# Altium footprint library 51常用（2）.PcbLib: 45 footprints (part 1 of 3)
Each footprint in its own frame and in the unit in brackets; x right, y up, seen from the top. Pads: shape width x height; smd on the part's side, far side on the other; paste and mask are expansions set on the pad; w line width, h text height; cw(c..) or ccw(c..) is an arc to the next point about the centre after c.
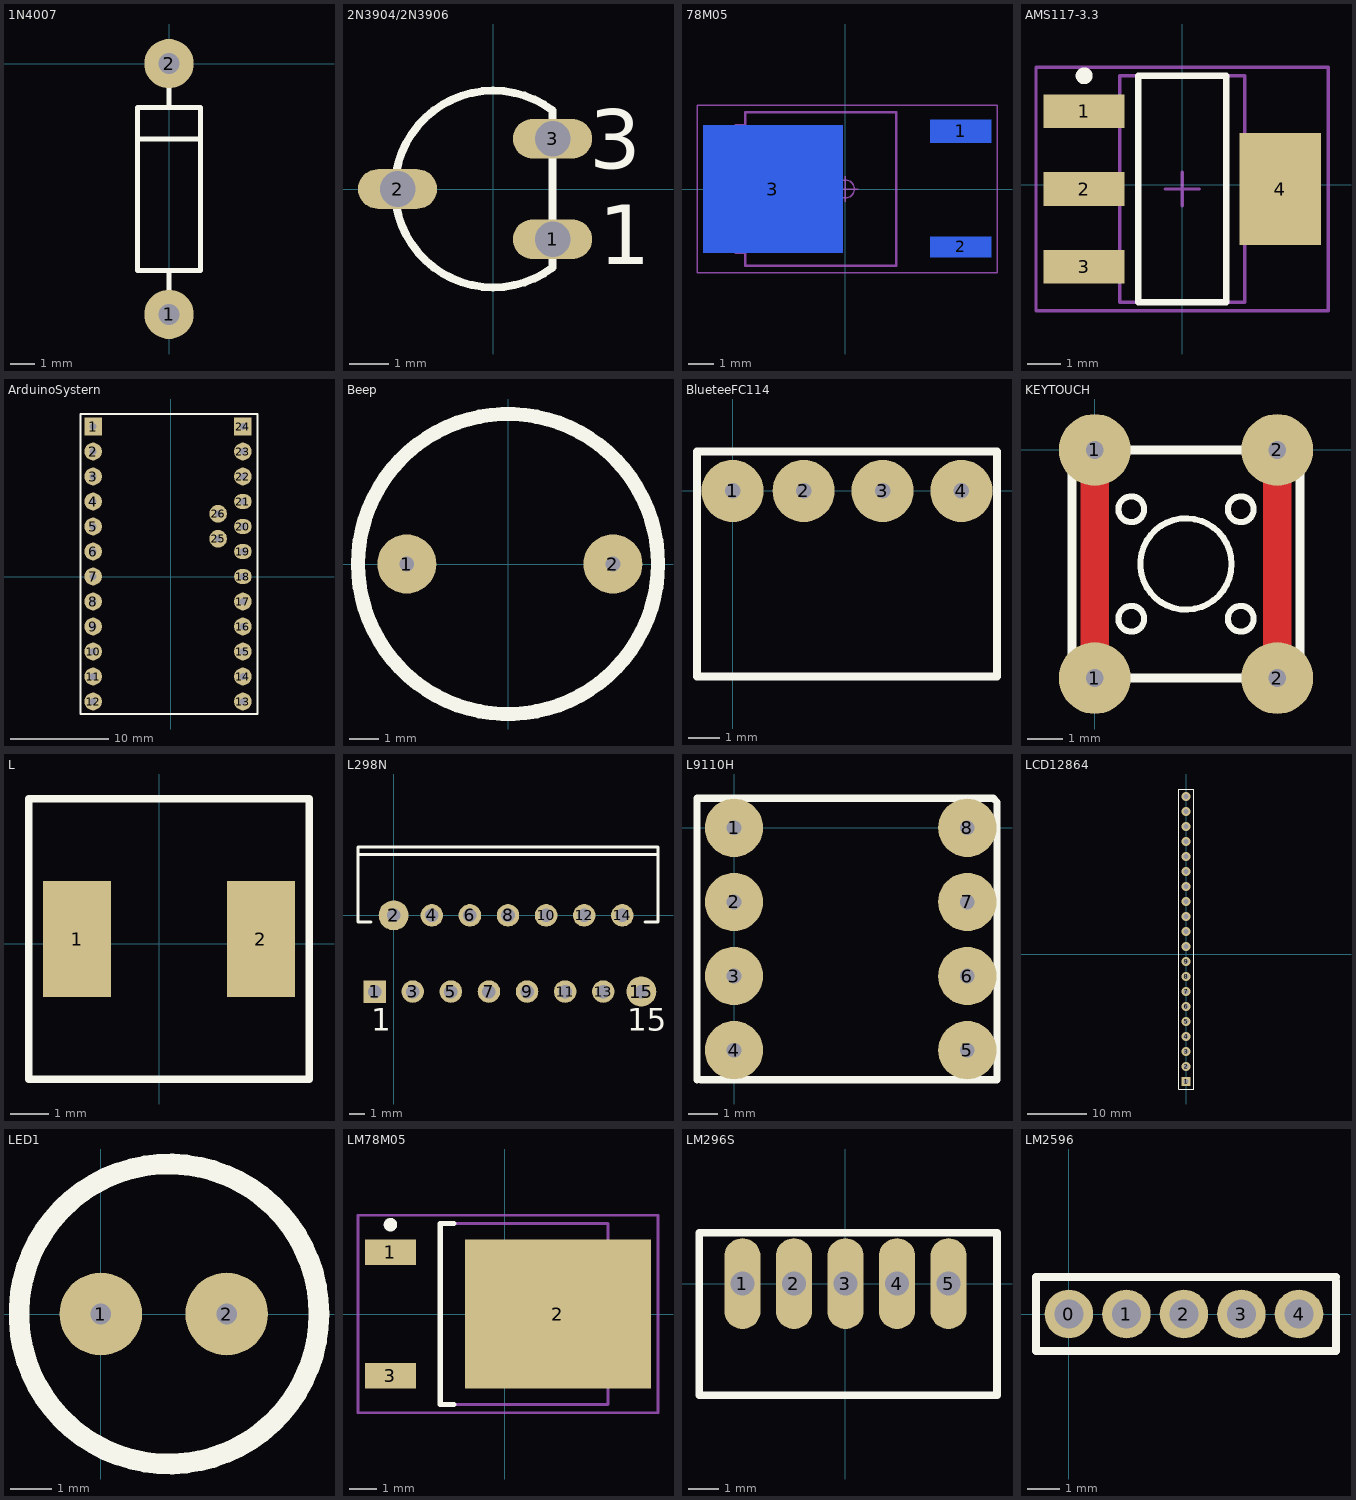
[diagram p0: the footprints below, top view; thin cyan lines are the x and y axes]

## 1N4007 [mm] "二极管"
pads (2):
  round 2 hole 0.85: 1(0,-10.16) 2(0,0)
Top Overlay:
  lines w0.2: -1.27,-3.048 1.27,-3.048 ; 0,-9.144 0,-8.382 ; 0,-1.778 0,-1.016 ; -1.27,-8.382 1.27,-8.382 1.27,-1.778 -1.27,-1.778 -1.27,-8.382

## 2N3904/2N3906 [mm]
pads (3):
  oval 2x1 hole 0.9: 1(1.5,-1.27) 2(-2.413,0) 3(1.5,1.27)
Top Overlay:
  lines w0.2: 1.5,-1.98 cw(c0,0) 1.5,1.98 1.5,-1.98
  text "1" at 2.66,-1.9 h1.5
  text "3" at 2.43,0.51 h1.5

## 78M05 [mm]
pads (3):
  rect 2.4x0.9 smd far side: 1(4.55,2.28)
  rect 2.4x0.8 smd far side: 2(4.55,-2.28)
  rect 5.5x5 smd far side: 3(-2.85,0)
Bottom Overlay:
  circle w0.25: c5.2,3.3 r0.125
  lines w0.2: 0.4,-3.05 2.7,-3.05 2.7,3.05 0.4,3.05
Bottom Paste:
  region: -3.03,0.33 -4.79,0.33 -4.79,1.95 -3.03,1.95
  region: -0.61,0.33 -2.37,0.33 -2.37,1.95 -0.61,1.95
  region: -3.03,-1.95 -4.79,-1.95 -4.79,-0.33 -3.03,-0.33
  region: -0.61,-1.95 -2.37,-1.95 -2.37,-0.33 -0.61,-0.33
Mechanical 1:
  lines w0.1: -3.95,-2.5 -4.313,-2.5 -5.05,-1.683 -5.05,1.683 -4.313,2.5 -3.95,2.5 ; -3.95,-3.025 -3.95,3.025 2,3.025 2,-3.025 -3.95,-3.025
Mechanical 16:
  circle w0.05: c0,0 r0.35
  lines w0.05: -0.5,0 0.5,0 ; 0,-0.5 0,0.5 ; -5.842,-3.3 -5.842,3.3 5.969,3.3 5.969,-3.3 -5.842,-3.3

## AMS117-3.3 [mm]
pads (4):
  rect 2.4x1 smd: 1(-2.9,2.173) 2(-2.9,-0.127) 3(-2.9,-2.427)
  rect 2.4x3.3 smd: 4(2.9,-0.127)
Top Overlay:
  circle w0.25: c-2.9,3.223 r0.125
  lines w0.2: -1.3,-3.477 -1.3,3.223 1.3,3.223 1.3,-3.477 -1.3,-3.477
Mechanical 13:
  lines w0.1: -1.85,-3.477 -1.85,3.223 1.85,3.223 1.85,-3.477 -1.85,-3.477
Mechanical 15:
  lines w0.1: -0.5,-0.127 0.5,-0.127 ; 0,-0.627 0,0.373 ; -4.325,-3.727 -4.325,3.473 4.325,3.473 4.325,-3.727 -4.325,-3.727
3D body: height 1.8, standoff 0.02, extent -1.85,-3.477 1.85,3.223

## ArduinoSystern [mm]
pads (26):
  rect 1.8x1.8 hole 0.7: 1(-7.874,15.24) 24(7.341,15.24)
  round 1.8 hole 0.7: 2(-7.874,12.7) 3(-7.874,10.16) 4(-7.874,7.62) 5(-7.874,5.08) 6(-7.874,2.54) 7(-7.874,0) 8(-7.874,-2.54) 9(-7.874,-5.08) 10(-7.874,-7.62) 11(-7.874,-10.16) 12(-7.874,-12.7) 13(7.341,-12.7) 14(7.341,-10.16) 15(7.341,-7.62) 16(7.341,-5.08) 17(7.341,-2.54) 22(7.341,10.16) 23(7.341,12.7) 25(4.826,3.835) 26(4.826,6.375)
  oval 1.8x1.5 hole 0.7: 18(7.341,0) 19(7.341,2.54) 20(7.341,5.08) 21(7.341,7.62)
Top Overlay:
  lines w0.2: -9.144,-13.97 8.814,-13.97 8.814,16.51 -9.144,16.51 -9.144,-13.97

## Beep [mm]
pads (2):
  round 2 hole 0.5: 1(-3.429,0) 2(3.556,0)
Top Overlay:
  circle w0.48: c0,0 r5.082

## BlueteeFC114 [mm]
pads (4):
  round 2 hole 0.5: 1(0,0) 2(2.286,0) 3(4.826,0) 4(7.366,0)
Top Overlay:
  lines w0.254: -1.143,-5.969 -1.143,1.27 8.509,1.27 8.509,-5.969 -1.143,-5.969

## KEYTOUCH [mm] "轻触开关"
pads (4):
  round 2 hole 0.5: 1(0,-6.35) 1(0,0) 2(5.08,-6.35) 2(5.08,0)
Top Layer:
  lines w0.8: 0,-6.35 0,0 ; 5.08,-6.35 5.08,0.127
Top Overlay:
  circle w0.17: c1.016,-1.651 r0.359
  circle w0.17: c4.064,-1.651 r0.359
  circle w0.17: c4.064,-4.699 r0.359
  circle w0.17: c1.016,-4.699 r0.359
  circle w0.17: c2.54,-3.175 r1.27
  lines w0.254: -0.635,-6.35 -0.635,0 5.715,0 5.715,-6.35 -0.635,-6.35

## L [mil]
pads (2):
  rect 70x120 smd: 1(-85,5) 2(105,5)
Top Overlay:
  lines w7.87: -135,-140 -135,150 155,150 155,-140 -135,-140

## L298N [mm]
pads (15):
  rect 1.5x1.5 hole 0.9: 1(-1.27,-5.08)
  round 2 hole 0.9: 2(0,0) 15(16.51,-5.08)
  round 1.5 hole 0.9: 3(1.27,-5.08) 4(2.54,0) 5(3.81,-5.08) 6(5.08,0) 7(6.35,-5.08) 8(7.62,0) 9(8.89,-5.08) 10(10.16,0) 11(11.43,-5.08) 12(12.7,0) 13(13.97,-5.08) 14(15.24,0)
Top Overlay:
  lines w0.2: -2.38,4.05 17.62,4.05 ; -1.524,-0.45 -2.38,-0.45 -2.38,4.55 17.62,4.55 17.62,-0.45 16.764,-0.45
  text "15" at 15.56,-7.705 h1.5
  text "1" at -1.5,-7.705 h1.5

## L9110H [mm]
pads (8):
  round 2 hole 0.5: 1(0,0) 2(0,-2.54) 3(0,-5.08) 4(0,-7.62) 5(8.001,-7.62) 6(8.001,-5.08) 7(8.001,-2.54) 8(8.001,0)
Top Overlay:
  lines w0.254: -1.27,-8.636 -1.27,1.016 8.89,1.016 9.017,0.889 9.017,-8.636 -1.143,-8.636

## LCD12864 [mm]
height 3
pads (20):
  rect 1.5x1.5 hole 0.9: 1(0,-21.59)
  round 1.5 hole 0.9: 2(0,-19.05) 3(0,-16.51) 4(0,-13.97) 5(0,-11.43) 6(0,-8.89) 7(0,-6.35) 8(0,-3.81) 9(0,-1.27) 10(0,1.27) 11(0,3.81) 12(0,6.35) 13(0,8.89) 14(0,11.43) 15(0,13.97) 16(0,16.51) 17(0,19.05) 18(0,21.59) 19(0,24.13) 20(0,26.67)
Top Overlay:
  lines w0.2: -1.27,-22.86 -1.27,-20.955 -1.27,27.94 1.27,27.94 1.27,-22.86 -1.27,-22.86

## LED1 [mm] "电源指示灯   透明"
pads (2):
  round 2 hole 0.5: 1(0,0) 2(3.048,0)
Top Overlay:
  circle w0.5: c1.651,0 r3.632

## LM78M05 [mm]
pads (3):
  rect 1.9x0.95 smd: 1(-4.223,2.28) 3(-4.223,-2.28)
  rect 6.9x5.5 smd: 2(1.977,0)
Top Overlay:
  circle w0.25: c-4.223,3.305 r0.125
  lines w0.2: -1.873,-3.35 -2.373,-3.35 -2.373,3.35 -1.873,3.35
Mechanical 13:
  lines w0.1: -2.373,-3.35 -2.373,3.35 3.827,3.35 3.827,-3.35 -2.373,-3.35
Mechanical 15:
  lines w0.1: -0.373,0 0.627,0 ; 0.127,-0.5 0.127,0.5 ; -5.423,-3.65 -5.423,3.65 5.677,3.65 5.677,-3.65 -5.423,-3.65
3D body: height 2.38, standoff 0, extent -2.372,-3.349 3.826,3.349

## LM296S [mm]
pads (5):
  oval 1.2x3 hole 0.8: 1(-3.404,0) 2(-1.702,0) 3(0,0) 4(1.702,0) 5(3.404,0)
Top Overlay:
  lines w0.254: -4.826,-3.683 5.004,-3.683 5.004,1.676 -4.826,1.676 -4.826,-3.683

## LM2596 [mm]
pads (5):
  round 1.5 hole 0.9: 0(0,0) 1(1.778,0) 2(3.556,0) 3(5.334,0) 4(7.112,0)
Top Overlay:
  lines w0.254: 8.255,1.016 8.255,-1.143 -1.016,-1.143 -1.016,1.143 8.255,1.143